# Altium integrated library TI_Logic_Flip-Flop,Latch,Register.IntLib: 2598 symbols (part 85 of 122)
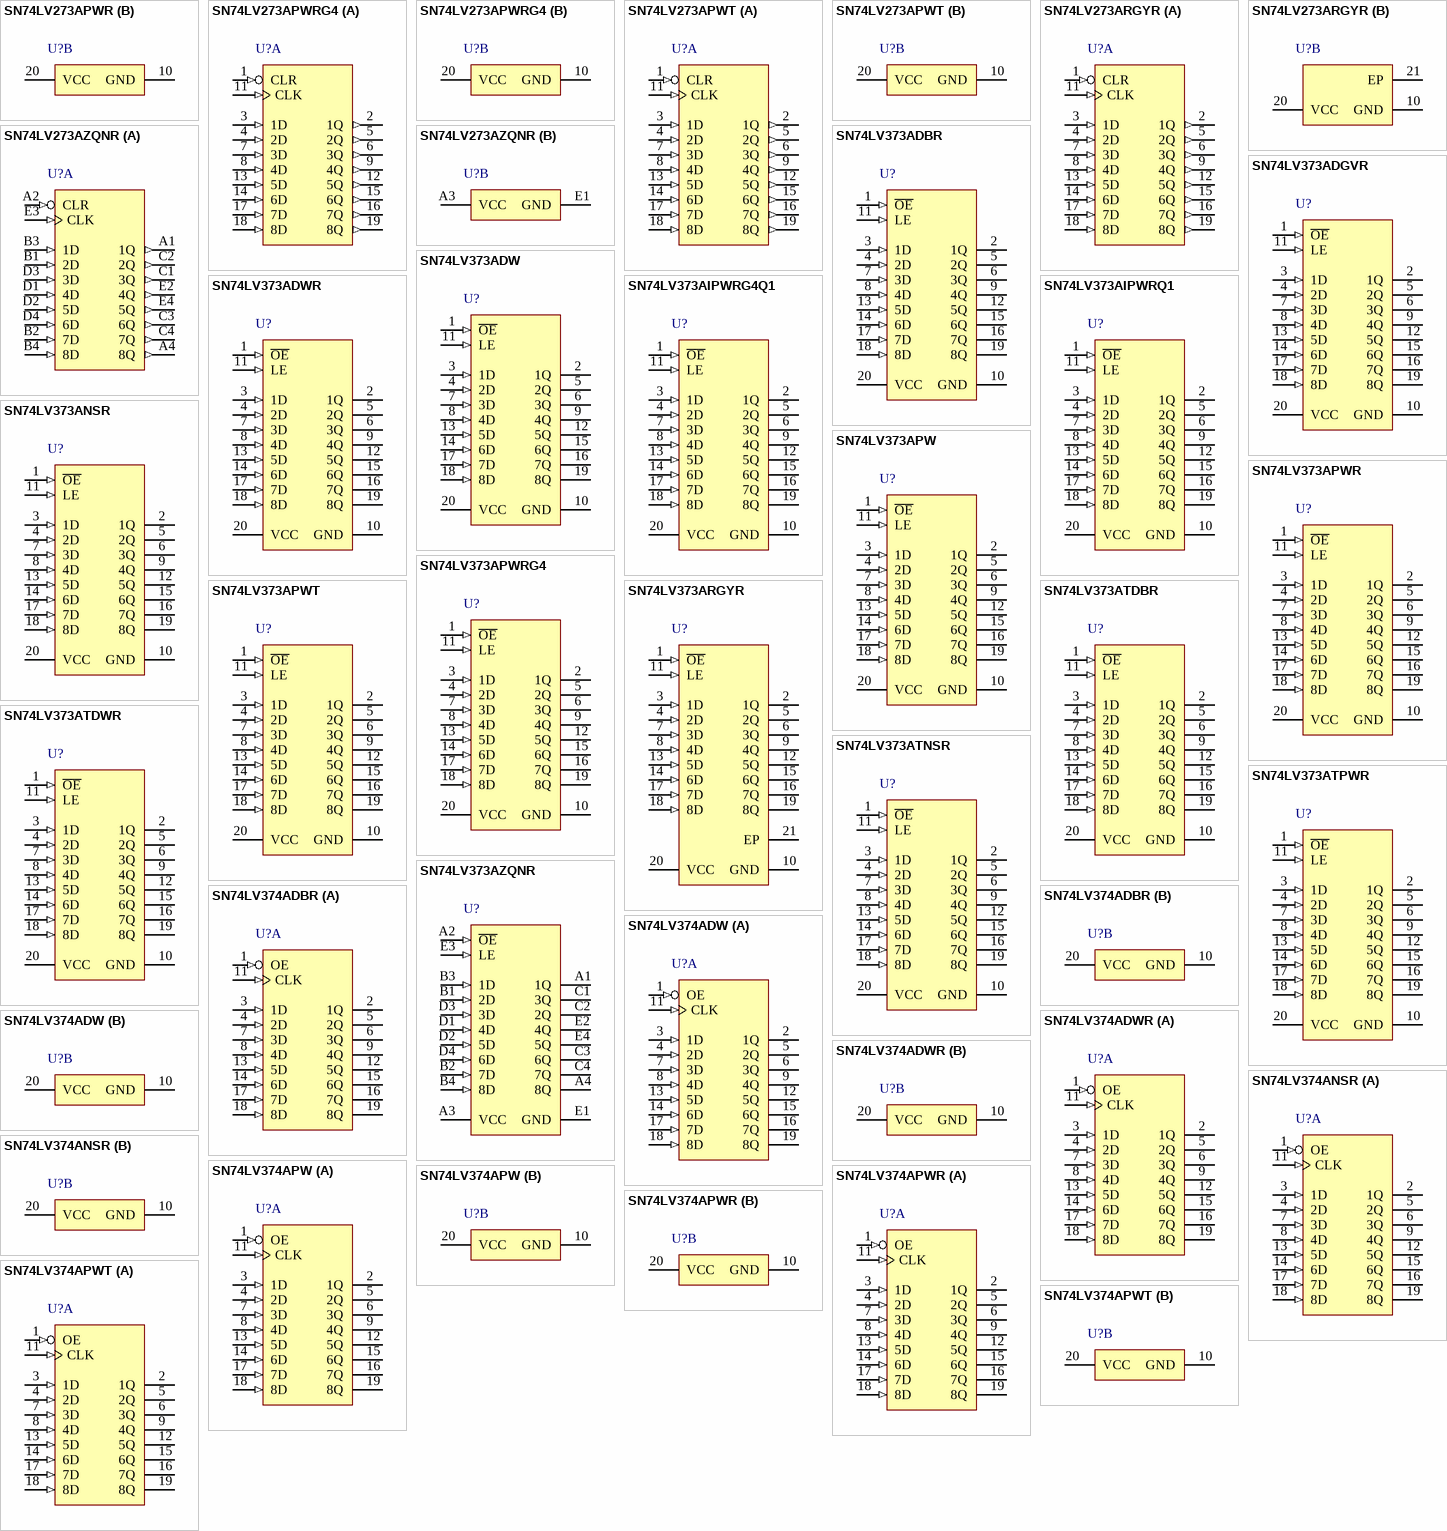
[diagram p223: symbols SN74LV273APWR to SN74LV374APWT]

## SN74LV373ANSR
designator U?
Octal Transparent D-Type Latches With 3-State Outputs, NS0020A, LARGE T&R; Generic Part Number: SN74LV373A; Manufacturer: Texas Instruments; PartNumber: SN74LV373ANSR; VCC(Min)(V): 2; VCC(Max)(V): 5.5; Output Type: CMOS; Logic: True; ICC @ Nom Voltage(Max)(mA): 0.02; Bits(#): 8; F @ Nom Voltage(Max)(Mhz): 70; Rating: Catalog; Technology Family: LV-A; Voltage(Nom)(V): 2.5,3.3,5; Schmitt Trigger: No; Output Drive (IOL/IOH)(Max)(mA): 50/-50; Output Logic: Non-inverted; 3-State Output: Yes; tpd @ Nom Voltage(Max)(ns): 21,17,10.5; DatasheetVersion: SCLS407K; PackageReference: NS0020A; Supplier 1: Digi-Key; Supplier Part Number 1: 296-28900-2-ND; Supplier 2: Digi-Key; Supplier Part Number 2: 296-28900-1-ND; Supplier 3: Digi-Key; Supplier Part Number 3: 296-28900-6-ND; Supplier 4: Mouser; Supplier Part Number 4: 595-SN74LV373ANSR; Input Type: CMOS; Operating Temperature Range(C): -40 to 125,-40 to 85; ComponentLink1Description: Manufacturer URL; ComponentLink1URL: http://www.ti.com/; ComponentLink2Description: Datasheet; ComponentLink2URL: http://www.ti.com/lit/ds/symlink/sn74lv373a.pdf; ComponentLink3Description: Package Specification; ComponentLink3URL: http://www.ti.com/lit/ml/msop002a/msop002a.pdf
footprint NS0020A_N (SOIC,20-Leads,Body 12.9x5.6mm,Pitch 1.27mm,IPC Medium Density)
footprint NS0020A_M (SOIC,20-Leads,Body 12.9x5.6mm,Pitch 1.27mm,IPC Low Density)
footprint NS0020A_L (SOIC,20-Leads,Body 12.9x5.6mm,Pitch 1.27mm,IPC High Density)
pins: 1 ~{OE} (in) "Output Enable", 2 1Q (hiz) "1Q Output", 3 1D (in) "1D Input", 4 2D (in) "2D Input", 5 2Q (hiz) "2Q Output", 6 3Q (hiz) "3Q Output", 7 3D (in) "3D Input", 8 4D (in) "4D Input", 9 4Q (hiz) "4Q Output", 10 GND (power) "Ground Pin", 11 LE (in) "Latch Enable", 12 5Q (hiz) "5Q Output", 13 5D (in) "5D Input", 14 6D (in) "6D Input", 15 6Q (hiz) "6Q Output", 16 7Q (hiz) "7Q Output", 17 7D (in) "7D Input", 18 8D (in) "8D Input", 19 8Q (hiz) "8Q Output", 20 VCC (power) "Power Pin"

## SN74LV373APW
designator U?
Octal Transparent D-Type Latches With 3-State Outputs, PW0020A, TUBE; Generic Part Number: SN74LV373A; Manufacturer: Texas Instruments; PartNumber: SN74LV373APW; VCC(Min)(V): 2; VCC(Max)(V): 5.5; Output Type: CMOS; Logic: True; ICC @ Nom Voltage(Max)(mA): 0.02; Bits(#): 8; F @ Nom Voltage(Max)(Mhz): 70; Rating: Catalog; Technology Family: LV-A; Voltage(Nom)(V): 2.5,3.3,5; Schmitt Trigger: No; Output Drive (IOL/IOH)(Max)(mA): 50/-50; Output Logic: Non-inverted; 3-State Output: Yes; tpd @ Nom Voltage(Max)(ns): 21,17,10.5; DatasheetVersion: SCLS407K; PackageReference: PW0020A; Supplier 1: Digi-Key; Supplier Part Number 1: 296-34054-5-ND; Supplier 2: Newark; Supplier Part Number 2: 02H5474; Supplier 3: Mouser; Supplier Part Number 3: 595-SN74LV373APW; Input Type: CMOS; Operating Temperature Range(C): -40 to 125,-40 to 85; Code_JEDEC: MO-153; ComponentLink1Description: Manufacturer URL; ComponentLink1URL: http://www.ti.com/; ComponentLink2Description: Datasheet; ComponentLink2URL: http://www.ti.com/lit/ds/symlink/sn74lv373a.pdf; ComponentLink3Description: Package Specification; ComponentLink3URL: http://www.ti.com/lit/ml/mpds362/mpds362.pdf
footprint PW0020A_N (SOP, 20-Leads, Body 6.6x4.5mm, Pitch 0.65mm, IPC Medium Density)
footprint PW0020A_M (SOP, 20-Leads, Body 6.6x4.5mm, Pitch 0.65mm, IPC Low Density)
footprint PW0020A_L (SOP, 20-Leads, Body 6.6x4.5mm, Pitch 0.65mm, IPC High Density)
pins: 1 ~{OE} (in) "Output Enable", 2 1Q (hiz) "1Q Output", 3 1D (in) "1D Input", 4 2D (in) "2D Input", 5 2Q (hiz) "2Q Output", 6 3Q (hiz) "3Q Output", 7 3D (in) "3D Input", 8 4D (in) "4D Input", 9 4Q (hiz) "4Q Output", 10 GND (power) "Ground Pin", 11 LE (in) "Latch Enable", 12 5Q (hiz) "5Q Output", 13 5D (in) "5D Input", 14 6D (in) "6D Input", 15 6Q (hiz) "6Q Output", 16 7Q (hiz) "7Q Output", 17 7D (in) "7D Input", 18 8D (in) "8D Input", 19 8Q (hiz) "8Q Output", 20 VCC (power) "Power Pin"

## SN74LV373APWR
designator U?
Octal Transparent D-Type Latches With 3-State Outputs, PW0020A, LARGE T&R; Generic Part Number: SN74LV373A; Manufacturer: Texas Instruments; PartNumber: SN74LV373APWR; VCC(Min)(V): 2; VCC(Max)(V): 5.5; Output Type: CMOS; Logic: True; ICC @ Nom Voltage(Max)(mA): 0.02; Bits(#): 8; F @ Nom Voltage(Max)(Mhz): 70; Rating: Catalog; Technology Family: LV-A; Voltage(Nom)(V): 2.5,3.3,5; Schmitt Trigger: No; Output Drive (IOL/IOH)(Max)(mA): 50/-50; Output Logic: Non-inverted; 3-State Output: Yes; tpd @ Nom Voltage(Max)(ns): 21,17,10.5; DatasheetVersion: SCLS407K; PackageReference: PW0020A; Supplier 1: Digi-Key; Supplier Part Number 1: 296-14318-2-ND; Supplier 2: Digi-Key; Supplier Part Number 2: 296-14318-1-ND; Supplier 3: Digi-Key; Supplier Part Number 3: 296-14318-6-ND; Supplier 4: Newark; Supplier Part Number 4: 76C4842; Supplier 5: Mouser; Supplier Part Number 5: 595-SN74LV373APWR; Input Type: CMOS; Operating Temperature Range(C): -40 to 125,-40 to 85; Code_JEDEC: MO-153; ComponentLink1Description: Manufacturer URL; ComponentLink1URL: http://www.ti.com/; ComponentLink2Description: Datasheet; ComponentLink2URL: http://www.ti.com/lit/ds/symlink/sn74lv373a.pdf; ComponentLink3Description: Package Specification; ComponentLink3URL: http://www.ti.com/lit/ml/mpds362/mpds362.pdf
footprint PW0020A_N (SOP, 20-Leads, Body 6.6x4.5mm, Pitch 0.65mm, IPC Medium Density)
footprint PW0020A_M (SOP, 20-Leads, Body 6.6x4.5mm, Pitch 0.65mm, IPC Low Density)
footprint PW0020A_L (SOP, 20-Leads, Body 6.6x4.5mm, Pitch 0.65mm, IPC High Density)
pins: 1 ~{OE} (in) "Output Enable", 2 1Q (hiz) "1Q Output", 3 1D (in) "1D Input", 4 2D (in) "2D Input", 5 2Q (hiz) "2Q Output", 6 3Q (hiz) "3Q Output", 7 3D (in) "3D Input", 8 4D (in) "4D Input", 9 4Q (hiz) "4Q Output", 10 GND (power) "Ground Pin", 11 LE (in) "Latch Enable", 12 5Q (hiz) "5Q Output", 13 5D (in) "5D Input", 14 6D (in) "6D Input", 15 6Q (hiz) "6Q Output", 16 7Q (hiz) "7Q Output", 17 7D (in) "7D Input", 18 8D (in) "8D Input", 19 8Q (hiz) "8Q Output", 20 VCC (power) "Power Pin"

## SN74LV373APWRG4
designator U?
Octal Transparent D-Type Latches With 3-State Outputs, PW0020A, LARGE T&R; Generic Part Number: SN74LV373A; Manufacturer: Texas Instruments; PartNumber: SN74LV373APWRG4; VCC(Min)(V): 2; VCC(Max)(V): 5.5; Output Type: CMOS; Logic: True; ICC @ Nom Voltage(Max)(mA): 0.02; Bits(#): 8; F @ Nom Voltage(Max)(Mhz): 70; Rating: Catalog; Technology Family: LV-A; Voltage(Nom)(V): 2.5,3.3,5; Schmitt Trigger: No; Output Drive (IOL/IOH)(Max)(mA): 50/-50; Output Logic: Non-inverted; 3-State Output: Yes; tpd @ Nom Voltage(Max)(ns): 21,17,10.5; DatasheetVersion: SCLS407K; PackageReference: PW0020A; Supplier 1: Digi-Key; Supplier Part Number 1: 296-41643-2-ND; Supplier 2: Digi-Key; Supplier Part Number 2: 296-41643-1-ND; Supplier 3: Digi-Key; Supplier Part Number 3: 296-41643-6-ND; Supplier 4: Mouser; Supplier Part Number 4: 595-SN74LV373APWRG4; Input Type: CMOS; Operating Temperature Range(C): -40 to 125,-40 to 85; Code_JEDEC: MO-153; ComponentLink1Description: Manufacturer URL; ComponentLink1URL: http://www.ti.com/; ComponentLink2Description: Datasheet; ComponentLink2URL: http://www.ti.com/lit/ds/symlink/sn74lv373a.pdf; ComponentLink3Description: Package Specification; ComponentLink3URL: http://www.ti.com/lit/ml/mpds362/mpds362.pdf
footprint PW0020A_N (SOP, 20-Leads, Body 6.6x4.5mm, Pitch 0.65mm, IPC Medium Density)
footprint PW0020A_M (SOP, 20-Leads, Body 6.6x4.5mm, Pitch 0.65mm, IPC Low Density)
footprint PW0020A_L (SOP, 20-Leads, Body 6.6x4.5mm, Pitch 0.65mm, IPC High Density)
pins: 1 ~{OE} (in) "Output Enable", 2 1Q (hiz) "1Q Output", 3 1D (in) "1D Input", 4 2D (in) "2D Input", 5 2Q (hiz) "2Q Output", 6 3Q (hiz) "3Q Output", 7 3D (in) "3D Input", 8 4D (in) "4D Input", 9 4Q (hiz) "4Q Output", 10 GND (power) "Ground Pin", 11 LE (in) "Latch Enable", 12 5Q (hiz) "5Q Output", 13 5D (in) "5D Input", 14 6D (in) "6D Input", 15 6Q (hiz) "6Q Output", 16 7Q (hiz) "7Q Output", 17 7D (in) "7D Input", 18 8D (in) "8D Input", 19 8Q (hiz) "8Q Output", 20 VCC (power) "Power Pin"

## SN74LV373APWT
designator U?
Octal Transparent D-Type Latches With 3-State Outputs, PW0020A, SMALL T&R; Generic Part Number: SN74LV373A; Manufacturer: Texas Instruments; PartNumber: SN74LV373APWT; VCC(Min)(V): 2; VCC(Max)(V): 5.5; Output Type: CMOS; Logic: True; ICC @ Nom Voltage(Max)(mA): 0.02; Bits(#): 8; F @ Nom Voltage(Max)(Mhz): 70; Rating: Catalog; Technology Family: LV-A; Voltage(Nom)(V): 2.5,3.3,5; Schmitt Trigger: No; Output Drive (IOL/IOH)(Max)(mA): 50/-50; Output Logic: Non-inverted; 3-State Output: Yes; tpd @ Nom Voltage(Max)(ns): 21,17,10.5; DatasheetVersion: SCLS407K; PackageReference: PW0020A; Supplier 1: Digi-Key; Supplier Part Number 1: 296-28667-2-ND; Supplier 2: Digi-Key; Supplier Part Number 2: 296-28667-1-ND; Supplier 3: Digi-Key; Supplier Part Number 3: 296-28667-6-ND; Supplier 4: Farnell; Supplier Part Number 4: 2406978; Supplier 5: Mouser; Supplier Part Number 5: 595-SN74LV373APWT; Input Type: CMOS; Operating Temperature Range(C): -40 to 125,-40 to 85; Code_JEDEC: MO-153; ComponentLink1Description: Manufacturer URL; ComponentLink1URL: http://www.ti.com/; ComponentLink2Description: Datasheet; ComponentLink2URL: http://www.ti.com/lit/ds/symlink/sn74lv373a.pdf; ComponentLink3Description: Package Specification; ComponentLink3URL: http://www.ti.com/lit/ml/mpds362/mpds362.pdf
footprint PW0020A_N (SOP, 20-Leads, Body 6.6x4.5mm, Pitch 0.65mm, IPC Medium Density)
footprint PW0020A_M (SOP, 20-Leads, Body 6.6x4.5mm, Pitch 0.65mm, IPC Low Density)
footprint PW0020A_L (SOP, 20-Leads, Body 6.6x4.5mm, Pitch 0.65mm, IPC High Density)
pins: 1 ~{OE} (in) "Output Enable", 2 1Q (hiz) "1Q Output", 3 1D (in) "1D Input", 4 2D (in) "2D Input", 5 2Q (hiz) "2Q Output", 6 3Q (hiz) "3Q Output", 7 3D (in) "3D Input", 8 4D (in) "4D Input", 9 4Q (hiz) "4Q Output", 10 GND (power) "Ground Pin", 11 LE (in) "Latch Enable", 12 5Q (hiz) "5Q Output", 13 5D (in) "5D Input", 14 6D (in) "6D Input", 15 6Q (hiz) "6Q Output", 16 7Q (hiz) "7Q Output", 17 7D (in) "7D Input", 18 8D (in) "8D Input", 19 8Q (hiz) "8Q Output", 20 VCC (power) "Power Pin"

## SN74LV373ARGYR
designator U?
Octal Transparent D-Type Latches With 3-State Outputs, RGY0020A, LARGE T&R; Generic Part Number: SN74LV373A; Manufacturer: Texas Instruments; PartNumber: SN74LV373ARGYR; VCC(Min)(V): 2; VCC(Max)(V): 5.5; Output Type: CMOS; Logic: True; ICC @ Nom Voltage(Max)(mA): 0.02; Bits(#): 8; F @ Nom Voltage(Max)(Mhz): 70; Rating: Catalog; Technology Family: LV-A; Voltage(Nom)(V): 2.5,3.3,5; Schmitt Trigger: No; Output Drive (IOL/IOH)(Max)(mA): 50/-50; Output Logic: Non-inverted; 3-State Output: Yes; tpd @ Nom Voltage(Max)(ns): 21,17,10.5; DatasheetVersion: SCLS407K; PackageReference: RGY0020A; Supplier 1: Digi-Key; Supplier Part Number 1: 296-13942-2-ND; Supplier 2: Digi-Key; Supplier Part Number 2: 296-13942-1-ND; Supplier 3: Digi-Key; Supplier Part Number 3: 296-13942-6-ND; Supplier 4: Mouser; Supplier Part Number 4: 595-SN74LV373ARGYR; Input Type: CMOS; Operating Temperature Range(C): -40 to 125,-40 to 85; Code_JEDEC: MO-241; ComponentLink1Description: Manufacturer URL; ComponentLink1URL: http://www.ti.com/; ComponentLink2Description: Datasheet; ComponentLink2URL: http://www.ti.com/lit/ds/symlink/sn74lv373a.pdf; ComponentLink3Description: Package Specification; ComponentLink3URL: http://www.ti.com/lit/ml/mpqf116g/mpqf116g.pdf
footprint RGY0020A_V (QFN, 20-Leads, Body 4.5x3.5mm, Thermal Pad 3.05x2.05mm, TI Recommend)
pins: 1 ~{OE} (in) "Output Enable", 2 1Q (hiz) "1Q Output", 3 1D (in) "1D Input", 4 2D (in) "2D Input", 5 2Q (hiz) "2Q Output", 6 3Q (hiz) "3Q Output", 7 3D (in) "3D Input", 8 4D (in) "4D Input", 9 4Q (hiz) "4Q Output", 10 GND (power) "Ground Pin", 11 LE (in) "Latch Enable", 12 5Q (hiz) "5Q Output", 13 5D (in) "5D Input", 14 6D (in) "6D Input", 15 6Q (hiz) "6Q Output", 16 7Q (hiz) "7Q Output", 17 7D (in) "7D Input", 18 8D (in) "8D Input", 19 8Q (hiz) "8Q Output", 20 VCC (power) "Power Pin", 21 EP

## SN74LV373ATDBR
designator U?
Octal Transparent D-Type Latch With 3-State Output, DB0020A, LARGE T&R; Generic Part Number: SN74LV373AT; Manufacturer: Texas Instruments; PartNumber: SN74LV373ATDBR; VCC(Min)(V): 4.5; VCC(Max)(V): 5.5; Output Type: CMOS; Logic: True; ICC @ Nom Voltage(Max)(mA): 0.02; Input Type: LVTTL; Bits(#): 8; F @ Nom Voltage(Max)(Mhz): 70; Rating: Catalog; Technology Family: LV-AT; Voltage(Nom)(V): 5; Schmitt Trigger: No; Output Drive (IOL/IOH)(Max)(mA): 16/-16; Output Logic: Non-inverted; 3-State Output: Yes; tpd @ Nom Voltage(Max)(ns): 11; DatasheetVersion: SCES630B; PackageReference: DB0020A; Supplier 1: Digi-Key; Supplier Part Number 1: 296-21038-2-ND; Supplier 2: Digi-Key; Supplier Part Number 2: 296-21038-1-ND; Supplier 3: Digi-Key; Supplier Part Number 3: 296-21038-6-ND; Supplier 4: Mouser; Supplier Part Number 4: 595-SN74LV373ATDBR; Operating Temperature Range(C): -40 to 125; Code_JEDEC: MO-150; ComponentLink1Description: Manufacturer URL; ComponentLink1URL: http://www.ti.com/; ComponentLink2Description: Datasheet; ComponentLink2URL: http://www.ti.com/lit/ds/symlink/sn74lv373at.pdf; ComponentLink3Description: Package Specification; ComponentLink3URL: http://www.ti.com/lit/ml/mpds508/mpds508.pdf
footprint DB0020A_N (SOP, 20-Leads, Body 5.6x7.5mm, Pitch 0.65mm, IPC Medium Density)
footprint DB0020A_M (SOP, 20-Leads, Body 5.6x7.5mm, Pitch 0.65mm, IPC Low Density)
footprint DB0020A_L (SOP, 20-Leads, Body 5.6x7.5mm, Pitch 0.65mm, IPC High Density)
pins: 1 ~{OE} (in) "Output Enable", 2 1Q (hiz) "1Q Output", 3 1D (in) "1D Input", 4 2D (in) "2D Input", 5 2Q (hiz) "2Q Output", 6 3Q (hiz) "3Q Output", 7 3D (in) "3D Input", 8 4D (in) "4D Input", 9 4Q (hiz) "4Q Output", 10 GND (power) "Ground Pin", 11 LE (in) "Latch Enable", 12 5Q (hiz) "5Q Output", 13 5D (in) "5D Input", 14 6D (in) "6D Input", 15 6Q (hiz) "6Q Output", 16 7Q (hiz) "7Q Output", 17 7D (in) "7D Input", 18 8D (in) "8D Input", 19 8Q (hiz) "8Q Output", 20 VCC (power) "Power Pin"

## SN74LV373ATDWR
designator U?
Octal Transparent D-Type Latch With 3-State Output, DW0020A, LARGE T&R; Generic Part Number: SN74LV373AT; Manufacturer: Texas Instruments; PartNumber: SN74LV373ATDWR; VCC(Min)(V): 4.5; VCC(Max)(V): 5.5; Output Type: CMOS; Logic: True; ICC @ Nom Voltage(Max)(mA): 0.02; Input Type: LVTTL; Bits(#): 8; F @ Nom Voltage(Max)(Mhz): 70; Rating: Catalog; Technology Family: LV-AT; Voltage(Nom)(V): 5; Schmitt Trigger: No; Output Drive (IOL/IOH)(Max)(mA): 16/-16; Output Logic: Non-inverted; 3-State Output: Yes; tpd @ Nom Voltage(Max)(ns): 11; DatasheetVersion: SCES630B; PackageReference: DW0020A; Supplier 1: Digi-Key; Supplier Part Number 1: 296-21039-2-ND; Supplier 2: Digi-Key; Supplier Part Number 2: 296-21039-1-ND; Supplier 3: Digi-Key; Supplier Part Number 3: 296-21039-6-ND; Supplier 4: Mouser; Supplier Part Number 4: 595-SN74LV373ATDWR; Operating Temperature Range(C): -40 to 125; Code_JEDEC: MS-013; ComponentLink1Description: Manufacturer URL; ComponentLink1URL: http://www.ti.com/; ComponentLink2Description: Datasheet; ComponentLink2URL: http://www.ti.com/lit/ds/symlink/sn74lv373at.pdf; ComponentLink3Description: Package Specification; ComponentLink3URL: http://www.ti.com/lit/ml/mpds173a/mpds173a.pdf
footprint DW0020A_N (SOIC, 20-Leads, Body 13x7.6mm, Pitch 1.27mm, IPC Medium Density)
footprint DW0020A_M (SOIC, 20-Leads, Body 13x7.6mm, Pitch 1.27mm, IPC Low Density)
footprint DW0020A_L (SOIC, 20-Leads, Body 13x7.6mm, Pitch 1.27mm, IPC High Density)
pins: 1 ~{OE} (in) "Output Enable", 2 1Q (hiz) "1Q Output", 3 1D (in) "1D Input", 4 2D (in) "2D Input", 5 2Q (hiz) "2Q Output", 6 3Q (hiz) "3Q Output", 7 3D (in) "3D Input", 8 4D (in) "4D Input", 9 4Q (hiz) "4Q Output", 10 GND (power) "Ground Pin", 11 LE (in) "Latch Enable", 12 5Q (hiz) "5Q Output", 13 5D (in) "5D Input", 14 6D (in) "6D Input", 15 6Q (hiz) "6Q Output", 16 7Q (hiz) "7Q Output", 17 7D (in) "7D Input", 18 8D (in) "8D Input", 19 8Q (hiz) "8Q Output", 20 VCC (power) "Power Pin"

## SN74LV373ATNSR
designator U?
Octal Transparent D-Type Latch With 3-State Output, NS0020A, LARGE T&R; Generic Part Number: SN74LV373AT; Manufacturer: Texas Instruments; PartNumber: SN74LV373ATNSR; VCC(Min)(V): 4.5; VCC(Max)(V): 5.5; Output Type: CMOS; Logic: True; ICC @ Nom Voltage(Max)(mA): 0.02; Input Type: LVTTL; Bits(#): 8; F @ Nom Voltage(Max)(Mhz): 70; Rating: Catalog; Technology Family: LV-AT; Voltage(Nom)(V): 5; Schmitt Trigger: No; Output Drive (IOL/IOH)(Max)(mA): 16/-16; Output Logic: Non-inverted; 3-State Output: Yes; tpd @ Nom Voltage(Max)(ns): 11; DatasheetVersion: SCES630B; PackageReference: NS0020A; Supplier 1: Digi-Key; Supplier Part Number 1: 296-21040-2-ND; Supplier 2: Digi-Key; Supplier Part Number 2: 296-21040-1-ND; Supplier 3: Digi-Key; Supplier Part Number 3: 296-21040-6-ND; Supplier 4: Mouser; Supplier Part Number 4: 595-SN74LV373ATNSR; Operating Temperature Range(C): -40 to 125; ComponentLink1Description: Manufacturer URL; ComponentLink1URL: http://www.ti.com/; ComponentLink2Description: Datasheet; ComponentLink2URL: http://www.ti.com/lit/ds/symlink/sn74lv373at.pdf; ComponentLink3Description: Package Specification; ComponentLink3URL: http://www.ti.com/lit/ml/msop002a/msop002a.pdf
footprint NS0020A_N (SOIC,20-Leads,Body 12.9x5.6mm,Pitch 1.27mm,IPC Medium Density)
footprint NS0020A_M (SOIC,20-Leads,Body 12.9x5.6mm,Pitch 1.27mm,IPC Low Density)
footprint NS0020A_L (SOIC,20-Leads,Body 12.9x5.6mm,Pitch 1.27mm,IPC High Density)
pins: 1 ~{OE} (in) "Output Enable", 2 1Q (hiz) "1Q Output", 3 1D (in) "1D Input", 4 2D (in) "2D Input", 5 2Q (hiz) "2Q Output", 6 3Q (hiz) "3Q Output", 7 3D (in) "3D Input", 8 4D (in) "4D Input", 9 4Q (hiz) "4Q Output", 10 GND (power) "Ground Pin", 11 LE (in) "Latch Enable", 12 5Q (hiz) "5Q Output", 13 5D (in) "5D Input", 14 6D (in) "6D Input", 15 6Q (hiz) "6Q Output", 16 7Q (hiz) "7Q Output", 17 7D (in) "7D Input", 18 8D (in) "8D Input", 19 8Q (hiz) "8Q Output", 20 VCC (power) "Power Pin"

## SN74LV373ATPWR
designator U?
Octal Transparent D-Type Latch With 3-State Output, PW0020A, LARGE T&R; Generic Part Number: SN74LV373AT; Manufacturer: Texas Instruments; PartNumber: SN74LV373ATPWR; VCC(Min)(V): 4.5; VCC(Max)(V): 5.5; Output Type: CMOS; Logic: True; ICC @ Nom Voltage(Max)(mA): 0.02; Input Type: LVTTL; Bits(#): 8; F @ Nom Voltage(Max)(Mhz): 70; Rating: Catalog; Technology Family: LV-AT; Voltage(Nom)(V): 5; Schmitt Trigger: No; Output Drive (IOL/IOH)(Max)(mA): 16/-16; Output Logic: Non-inverted; 3-State Output: Yes; tpd @ Nom Voltage(Max)(ns): 11; DatasheetVersion: SCES630B; PackageReference: PW0020A; Supplier 1: Digi-Key; Supplier Part Number 1: 296-21041-2-ND; Supplier 2: Digi-Key; Supplier Part Number 2: 296-21041-1-ND; Supplier 3: Digi-Key; Supplier Part Number 3: 296-21041-6-ND; Supplier 4: Mouser; Supplier Part Number 4: 595-SN74LV373ATPWR; Operating Temperature Range(C): -40 to 125; Code_JEDEC: MO-153; ComponentLink1Description: Manufacturer URL; ComponentLink1URL: http://www.ti.com/; ComponentLink2Description: Datasheet; ComponentLink2URL: http://www.ti.com/lit/ds/symlink/sn74lv373at.pdf; ComponentLink3Description: Package Specification; ComponentLink3URL: http://www.ti.com/lit/ml/mpds362/mpds362.pdf
footprint PW0020A_N (SOP, 20-Leads, Body 6.6x4.5mm, Pitch 0.65mm, IPC Medium Density)
footprint PW0020A_M (SOP, 20-Leads, Body 6.6x4.5mm, Pitch 0.65mm, IPC Low Density)
footprint PW0020A_L (SOP, 20-Leads, Body 6.6x4.5mm, Pitch 0.65mm, IPC High Density)
pins: 1 ~{OE} (in) "Output Enable", 2 1Q (hiz) "1Q Output", 3 1D (in) "1D Input", 4 2D (in) "2D Input", 5 2Q (hiz) "2Q Output", 6 3Q (hiz) "3Q Output", 7 3D (in) "3D Input", 8 4D (in) "4D Input", 9 4Q (hiz) "4Q Output", 10 GND (power) "Ground Pin", 11 LE (in) "Latch Enable", 12 5Q (hiz) "5Q Output", 13 5D (in) "5D Input", 14 6D (in) "6D Input", 15 6Q (hiz) "6Q Output", 16 7Q (hiz) "7Q Output", 17 7D (in) "7D Input", 18 8D (in) "8D Input", 19 8Q (hiz) "8Q Output", 20 VCC (power) "Power Pin"

## SN74LV373AZQNR
designator U?
Octal Transparent D-Type Latches With 3-State Outputs, ZQN0020A, LARGE T&R; Generic Part Number: SN74LV373A; Manufacturer: Texas Instruments; PartNumber: SN74LV373AZQNR; VCC(Min)(V): 2; VCC(Max)(V): 5.5; Output Type: CMOS; Logic: True; ICC @ Nom Voltage(Max)(mA): 0.02; Bits(#): 8; F @ Nom Voltage(Max)(Mhz): 70; Rating: Catalog; Technology Family: LV-A; Voltage(Nom)(V): 2.5,3.3,5; Schmitt Trigger: No; Output Drive (IOL/IOH)(Max)(mA): 50/-50; Output Logic: Non-inverted; 3-State Output: Yes; tpd @ Nom Voltage(Max)(ns): 21,17,10.5; DatasheetVersion: SCLS407K; PackageReference: ZQN0020A; Supplier 1: Digi-Key; Supplier Part Number 1: SN74LV373AZQNR-ND; Supplier 2: Mouser; Supplier Part Number 2: 595-SN74LV373AZQNR; Input Type: CMOS; Operating Temperature Range(C): -40 to 125,-40 to 85; Code_JEDEC: MO-285; ComponentLink1Description: Manufacturer URL; ComponentLink1URL: http://www.ti.com/; ComponentLink2Description: Datasheet; ComponentLink2URL: http://www.ti.com/lit/ds/symlink/sn74lv373a.pdf; ComponentLink3Description: Package Specification; ComponentLink3URL: http://www.ti.com/lit/ml/mpbg297b/mpbg297b.pdf
footprint ZQN0020A (BGA, 20-Balls, Body 4x3mm, Pitch 0.65mm)
pins: A1 1Q (hiz) "Output 1", A2 ~{OE} (in) "Enable Pin", A3 VCC (power) "Power Pin", A4 8Q (hiz) "Output 8", B1 2D (in) "Input 2", B2 7D (in) "Input 7", B3 1D (in) "Input 1", B4 8D (in) "Input 8", C1 3Q (hiz) "Output 3", C2 2Q (hiz) "Output 2", C3 6Q (hiz) "Output 6", C4 7Q (hiz) "Output 7", D1 4D (in) "Input 4", D2 5D (in) "Input 5", D3 3D (in) "Input 3", D4 6D (in) "Input 6", E1 GND (power) "Ground Pin", E2 4Q (hiz) "Output 4", E3 LE (in) "Latch Enable", E4 5Q (hiz) "Output 5"

## SN74LV374ADBR
designator U?
Octal Edge-Triggered D-Type Flip-Flops With 3-State Outputs, DB0020A, LARGE T&R; Generic Part Number: SN74LV374A; Manufacturer: Texas Instruments; PartNumber: SN74LV374ADBR; VCC(Min)(V): 2; VCC(Max)(V): 5.5; Output Type: CMOS; ICC @ Nom Voltage(Max)(mA): 0.02; Bits(#): 8; F @ Nom Voltage(Max)(Mhz): 70; Rating: Catalog; Technology Family: LV-A; Voltage(Nom)(V): 2.5,3.3,5; Schmitt Trigger: No; Output Drive (IOL/IOH)(Max)(mA): 50/-50; Output Logic: Non-inverted; 3-State Output: Yes; tpd @ Nom Voltage(Max)(ns): 19,15,9.5; DatasheetVersion: SCLS408I; PackageReference: DB0020A; Supplier 1: Digi-Key; Supplier Part Number 1: 296-12553-2-ND; Supplier 2: Digi-Key; Supplier Part Number 2: 296-12553-1-ND; Supplier 3: Digi-Key; Supplier Part Number 3: 296-12553-6-ND; Supplier 4: Farnell; Supplier Part Number 4: 1236277; Supplier 5: Mouser; Supplier Part Number 5: 595-SN74LV374ADBR; Input Type: CMOS; Operating Temperature Range(C): -40 to 125,-40 to 85; Code_JEDEC: MO-150; ComponentLink1Description: Manufacturer URL; ComponentLink1URL: http://www.ti.com/; ComponentLink2Description: Datasheet; ComponentLink2URL: http://www.ti.com/lit/ds/symlink/sn74lv374a.pdf; ComponentLink3Description: Package Specification; ComponentLink3URL: http://www.ti.com/lit/ml/mpds508/mpds508.pdf
footprint DB0020A_N (SOP, 20-Leads, Body 5.6x7.5mm, Pitch 0.65mm, IPC Medium Density)
footprint DB0020A_M (SOP, 20-Leads, Body 5.6x7.5mm, Pitch 0.65mm, IPC Low Density)
footprint DB0020A_L (SOP, 20-Leads, Body 5.6x7.5mm, Pitch 0.65mm, IPC High Density)
part A pins: 1 OE (in), 2 1Q (hiz), 3 1D (in), 4 2D (in), 5 2Q (hiz), 6 3Q (hiz), 7 3D (in), 8 4D (in), 9 4Q (hiz), 11 CLK (in), 12 5Q (hiz), 13 5D (in), 14 6D (in), 15 6Q (hiz), 16 7Q (hiz), 17 7D (in), 18 8D (in), 19 8Q (hiz)
part B pins: 10 GND (power), 20 VCC (power)

## SN74LV374ADW
designator U?
Octal Edge-Triggered D-Type Flip-Flops With 3-State Outputs, DW0020A, TUBE; Generic Part Number: SN74LV374A; Manufacturer: Texas Instruments; PartNumber: SN74LV374ADW; VCC(Min)(V): 2; VCC(Max)(V): 5.5; Output Type: CMOS; ICC @ Nom Voltage(Max)(mA): 0.02; Bits(#): 8; F @ Nom Voltage(Max)(Mhz): 70; Rating: Catalog; Technology Family: LV-A; Voltage(Nom)(V): 2.5,3.3,5; Schmitt Trigger: No; Output Drive (IOL/IOH)(Max)(mA): 50/-50; Output Logic: Non-inverted; 3-State Output: Yes; tpd @ Nom Voltage(Max)(ns): 19,15,9.5; DatasheetVersion: SCLS408I; PackageReference: DW0020A; Supplier 1: Digi-Key; Supplier Part Number 1: 296-1688-5-ND; Supplier 2: Newark; Supplier Part Number 2: 76C4845; Supplier 3: Mouser; Supplier Part Number 3: 595-SN74LV374ADW; Input Type: CMOS; Operating Temperature Range(C): -40 to 125,-40 to 85; Code_JEDEC: MS-013; ComponentLink1Description: Manufacturer URL; ComponentLink1URL: http://www.ti.com/; ComponentLink2Description: Datasheet; ComponentLink2URL: http://www.ti.com/lit/ds/symlink/sn74lv374a.pdf; ComponentLink3Description: Package Specification; ComponentLink3URL: http://www.ti.com/lit/ml/mpds173a/mpds173a.pdf
footprint DW0020A_N (SOIC, 20-Leads, Body 13x7.6mm, Pitch 1.27mm, IPC Medium Density)
footprint DW0020A_M (SOIC, 20-Leads, Body 13x7.6mm, Pitch 1.27mm, IPC Low Density)
footprint DW0020A_L (SOIC, 20-Leads, Body 13x7.6mm, Pitch 1.27mm, IPC High Density)
part A pins: 1 OE (in), 2 1Q (hiz), 3 1D (in), 4 2D (in), 5 2Q (hiz), 6 3Q (hiz), 7 3D (in), 8 4D (in), 9 4Q (hiz), 11 CLK (in), 12 5Q (hiz), 13 5D (in), 14 6D (in), 15 6Q (hiz), 16 7Q (hiz), 17 7D (in), 18 8D (in), 19 8Q (hiz)
part B pins: 10 GND (power), 20 VCC (power)

## SN74LV374ADWR
designator U?
Octal Edge-Triggered D-Type Flip-Flops With 3-State Outputs, DW0020A, LARGE T&R; Generic Part Number: SN74LV374A; Manufacturer: Texas Instruments; PartNumber: SN74LV374ADWR; VCC(Min)(V): 2; VCC(Max)(V): 5.5; Output Type: CMOS; ICC @ Nom Voltage(Max)(mA): 0.02; Bits(#): 8; F @ Nom Voltage(Max)(Mhz): 70; Rating: Catalog; Technology Family: LV-A; Voltage(Nom)(V): 2.5,3.3,5; Schmitt Trigger: No; Output Drive (IOL/IOH)(Max)(mA): 50/-50; Output Logic: Non-inverted; 3-State Output: Yes; tpd @ Nom Voltage(Max)(ns): 19,15,9.5; DatasheetVersion: SCLS408I; PackageReference: DW0020A; Supplier 1: Digi-Key; Supplier Part Number 1: SN74LV374ADWR-ND; Supplier 2: Mouser; Supplier Part Number 2: 595-SN74LV374ADWR; Input Type: CMOS; Operating Temperature Range(C): -40 to 125,-40 to 85; Code_JEDEC: MS-013; ComponentLink1Description: Manufacturer URL; ComponentLink1URL: http://www.ti.com/; ComponentLink2Description: Datasheet; ComponentLink2URL: http://www.ti.com/lit/ds/symlink/sn74lv374a.pdf; ComponentLink3Description: Package Specification; ComponentLink3URL: http://www.ti.com/lit/ml/mpds173a/mpds173a.pdf
footprint DW0020A_N (SOIC, 20-Leads, Body 13x7.6mm, Pitch 1.27mm, IPC Medium Density)
footprint DW0020A_M (SOIC, 20-Leads, Body 13x7.6mm, Pitch 1.27mm, IPC Low Density)
footprint DW0020A_L (SOIC, 20-Leads, Body 13x7.6mm, Pitch 1.27mm, IPC High Density)
part A pins: 1 OE (in), 2 1Q (hiz), 3 1D (in), 4 2D (in), 5 2Q (hiz), 6 3Q (hiz), 7 3D (in), 8 4D (in), 9 4Q (hiz), 11 CLK (in), 12 5Q (hiz), 13 5D (in), 14 6D (in), 15 6Q (hiz), 16 7Q (hiz), 17 7D (in), 18 8D (in), 19 8Q (hiz)
part B pins: 10 GND (power), 20 VCC (power)

## SN74LV374ANSR
designator U?
Octal Edge-Triggered D-Type Flip-Flops With 3-State Outputs, NS0020A, LARGE T&R; Generic Part Number: SN74LV374A; Manufacturer: Texas Instruments; PartNumber: SN74LV374ANSR; VCC(Min)(V): 2; VCC(Max)(V): 5.5; Output Type: CMOS; ICC @ Nom Voltage(Max)(mA): 0.02; Bits(#): 8; F @ Nom Voltage(Max)(Mhz): 70; Rating: Catalog; Technology Family: LV-A; Voltage(Nom)(V): 2.5,3.3,5; Schmitt Trigger: No; Output Drive (IOL/IOH)(Max)(mA): 50/-50; Output Logic: Non-inverted; 3-State Output: Yes; tpd @ Nom Voltage(Max)(ns): 19,15,9.5; DatasheetVersion: SCLS408I; PackageReference: NS0020A; Supplier 1: Digi-Key; Supplier Part Number 1: 296-37426-2-ND; Supplier 2: Digi-Key; Supplier Part Number 2: 296-37426-1-ND; Supplier 3: Digi-Key; Supplier Part Number 3: 296-37426-6-ND; Supplier 4: Mouser; Supplier Part Number 4: 595-SN74LV374ANSR; Input Type: CMOS; Operating Temperature Range(C): -40 to 125,-40 to 85; ComponentLink1Description: Manufacturer URL; ComponentLink1URL: http://www.ti.com/; ComponentLink2Description: Datasheet; ComponentLink2URL: http://www.ti.com/lit/ds/symlink/sn74lv374a.pdf; ComponentLink3Description: Package Specification; ComponentLink3URL: http://www.ti.com/lit/ml/msop002a/msop002a.pdf
footprint NS0020A_N (SOIC,20-Leads,Body 12.9x5.6mm,Pitch 1.27mm,IPC Medium Density)
footprint NS0020A_M (SOIC,20-Leads,Body 12.9x5.6mm,Pitch 1.27mm,IPC Low Density)
footprint NS0020A_L (SOIC,20-Leads,Body 12.9x5.6mm,Pitch 1.27mm,IPC High Density)
part A pins: 1 OE (in), 2 1Q (hiz), 3 1D (in), 4 2D (in), 5 2Q (hiz), 6 3Q (hiz), 7 3D (in), 8 4D (in), 9 4Q (hiz), 11 CLK (in), 12 5Q (hiz), 13 5D (in), 14 6D (in), 15 6Q (hiz), 16 7Q (hiz), 17 7D (in), 18 8D (in), 19 8Q (hiz)
part B pins: 10 GND (power), 20 VCC (power)

## SN74LV374APW
designator U?
Octal Edge-Triggered D-Type Flip-Flops With 3-State Outputs, PW0020A, TUBE; Generic Part Number: SN74LV374A; Manufacturer: Texas Instruments; PartNumber: SN74LV374APW; VCC(Min)(V): 2; VCC(Max)(V): 5.5; Output Type: CMOS; ICC @ Nom Voltage(Max)(mA): 0.02; Bits(#): 8; F @ Nom Voltage(Max)(Mhz): 70; Rating: Catalog; Technology Family: LV-A; Voltage(Nom)(V): 2.5,3.3,5; Schmitt Trigger: No; Output Drive (IOL/IOH)(Max)(mA): 50/-50; Output Logic: Non-inverted; 3-State Output: Yes; tpd @ Nom Voltage(Max)(ns): 19,15,9.5; DatasheetVersion: SCLS408I; PackageReference: PW0020A; Supplier 1: Digi-Key; Supplier Part Number 1: 296-26552-5-ND; Supplier 2: Farnell; Supplier Part Number 2: 1741126; Supplier 3: Mouser; Supplier Part Number 3: 595-SN74LV374APW; Input Type: CMOS; Operating Temperature Range(C): -40 to 125,-40 to 85; Code_JEDEC: MO-153; ComponentLink1Description: Manufacturer URL; ComponentLink1URL: http://www.ti.com/; ComponentLink2Description: Datasheet; ComponentLink2URL: http://www.ti.com/lit/ds/symlink/sn74lv374a.pdf; ComponentLink3Description: Package Specification; ComponentLink3URL: http://www.ti.com/lit/ml/mpds362/mpds362.pdf
footprint PW0020A_N (SOP, 20-Leads, Body 6.6x4.5mm, Pitch 0.65mm, IPC Medium Density)
footprint PW0020A_M (SOP, 20-Leads, Body 6.6x4.5mm, Pitch 0.65mm, IPC Low Density)
footprint PW0020A_L (SOP, 20-Leads, Body 6.6x4.5mm, Pitch 0.65mm, IPC High Density)
part A pins: 1 OE (in), 2 1Q (hiz), 3 1D (in), 4 2D (in), 5 2Q (hiz), 6 3Q (hiz), 7 3D (in), 8 4D (in), 9 4Q (hiz), 11 CLK (in), 12 5Q (hiz), 13 5D (in), 14 6D (in), 15 6Q (hiz), 16 7Q (hiz), 17 7D (in), 18 8D (in), 19 8Q (hiz)
part B pins: 10 GND (power), 20 VCC (power)

## SN74LV374APWR
designator U?
Octal Edge-Triggered D-Type Flip-Flops With 3-State Outputs, PW0020A, LARGE T&R; Generic Part Number: SN74LV374A; Manufacturer: Texas Instruments; PartNumber: SN74LV374APWR; VCC(Min)(V): 2; VCC(Max)(V): 5.5; Output Type: CMOS; ICC @ Nom Voltage(Max)(mA): 0.02; Bits(#): 8; F @ Nom Voltage(Max)(Mhz): 70; Rating: Catalog; Technology Family: LV-A; Voltage(Nom)(V): 2.5,3.3,5; Schmitt Trigger: No; Output Drive (IOL/IOH)(Max)(mA): 50/-50; Output Logic: Non-inverted; 3-State Output: Yes; tpd @ Nom Voltage(Max)(ns): 19,15,9.5; DatasheetVersion: SCLS408I; PackageReference: PW0020A; Supplier 1: Digi-Key; Supplier Part Number 1: 296-3820-2-ND; Supplier 2: Digi-Key; Supplier Part Number 2: 296-3820-1-ND; Supplier 3: Digi-Key; Supplier Part Number 3: 296-3820-6-ND; Supplier 4: Mouser; Supplier Part Number 4: 595-SN74LV374APWR; Input Type: CMOS; Operating Temperature Range(C): -40 to 125,-40 to 85; Code_JEDEC: MO-153; ComponentLink1Description: Manufacturer URL; ComponentLink1URL: http://www.ti.com/; ComponentLink2Description: Datasheet; ComponentLink2URL: http://www.ti.com/lit/ds/symlink/sn74lv374a.pdf; ComponentLink3Description: Package Specification; ComponentLink3URL: http://www.ti.com/lit/ml/mpds362/mpds362.pdf
footprint PW0020A_N (SOP, 20-Leads, Body 6.6x4.5mm, Pitch 0.65mm, IPC Medium Density)
footprint PW0020A_M (SOP, 20-Leads, Body 6.6x4.5mm, Pitch 0.65mm, IPC Low Density)
footprint PW0020A_L (SOP, 20-Leads, Body 6.6x4.5mm, Pitch 0.65mm, IPC High Density)
part A pins: 1 OE (in), 2 1Q (hiz), 3 1D (in), 4 2D (in), 5 2Q (hiz), 6 3Q (hiz), 7 3D (in), 8 4D (in), 9 4Q (hiz), 11 CLK (in), 12 5Q (hiz), 13 5D (in), 14 6D (in), 15 6Q (hiz), 16 7Q (hiz), 17 7D (in), 18 8D (in), 19 8Q (hiz)
part B pins: 10 GND (power), 20 VCC (power)

## SN74LV374APWT
designator U?
Octal Edge-Triggered D-Type Flip-Flops With 3-State Outputs, PW0020A, SMALL T&R; Generic Part Number: SN74LV374A; Manufacturer: Texas Instruments; PartNumber: SN74LV374APWT; VCC(Min)(V): 2; VCC(Max)(V): 5.5; Output Type: CMOS; ICC @ Nom Voltage(Max)(mA): 0.02; Bits(#): 8; F @ Nom Voltage(Max)(Mhz): 70; Rating: Catalog; Technology Family: LV-A; Voltage(Nom)(V): 2.5,3.3,5; Schmitt Trigger: No; Output Drive (IOL/IOH)(Max)(mA): 50/-50; Output Logic: Non-inverted; 3-State Output: Yes; tpd @ Nom Voltage(Max)(ns): 19,15,9.5; DatasheetVersion: SCLS408I; PackageReference: PW0020A; Supplier 1: Digi-Key; Supplier Part Number 1: SN74LV374APWT-ND; Supplier 2: Mouser; Supplier Part Number 2: 595-SN74LV374APWT; Input Type: CMOS; Operating Temperature Range(C): -40 to 125,-40 to 85; Code_JEDEC: MO-153; ComponentLink1Description: Manufacturer URL; ComponentLink1URL: http://www.ti.com/; ComponentLink2Description: Datasheet; ComponentLink2URL: http://www.ti.com/lit/ds/symlink/sn74lv374a.pdf; ComponentLink3Description: Package Specification; ComponentLink3URL: http://www.ti.com/lit/ml/mpds362/mpds362.pdf
footprint PW0020A_N (SOP, 20-Leads, Body 6.6x4.5mm, Pitch 0.65mm, IPC Medium Density)
footprint PW0020A_M (SOP, 20-Leads, Body 6.6x4.5mm, Pitch 0.65mm, IPC Low Density)
footprint PW0020A_L (SOP, 20-Leads, Body 6.6x4.5mm, Pitch 0.65mm, IPC High Density)
part A pins: 1 OE (in), 2 1Q (hiz), 3 1D (in), 4 2D (in), 5 2Q (hiz), 6 3Q (hiz), 7 3D (in), 8 4D (in), 9 4Q (hiz), 11 CLK (in), 12 5Q (hiz), 13 5D (in), 14 6D (in), 15 6Q (hiz), 16 7Q (hiz), 17 7D (in), 18 8D (in), 19 8Q (hiz)
part B pins: 10 GND (power), 20 VCC (power)

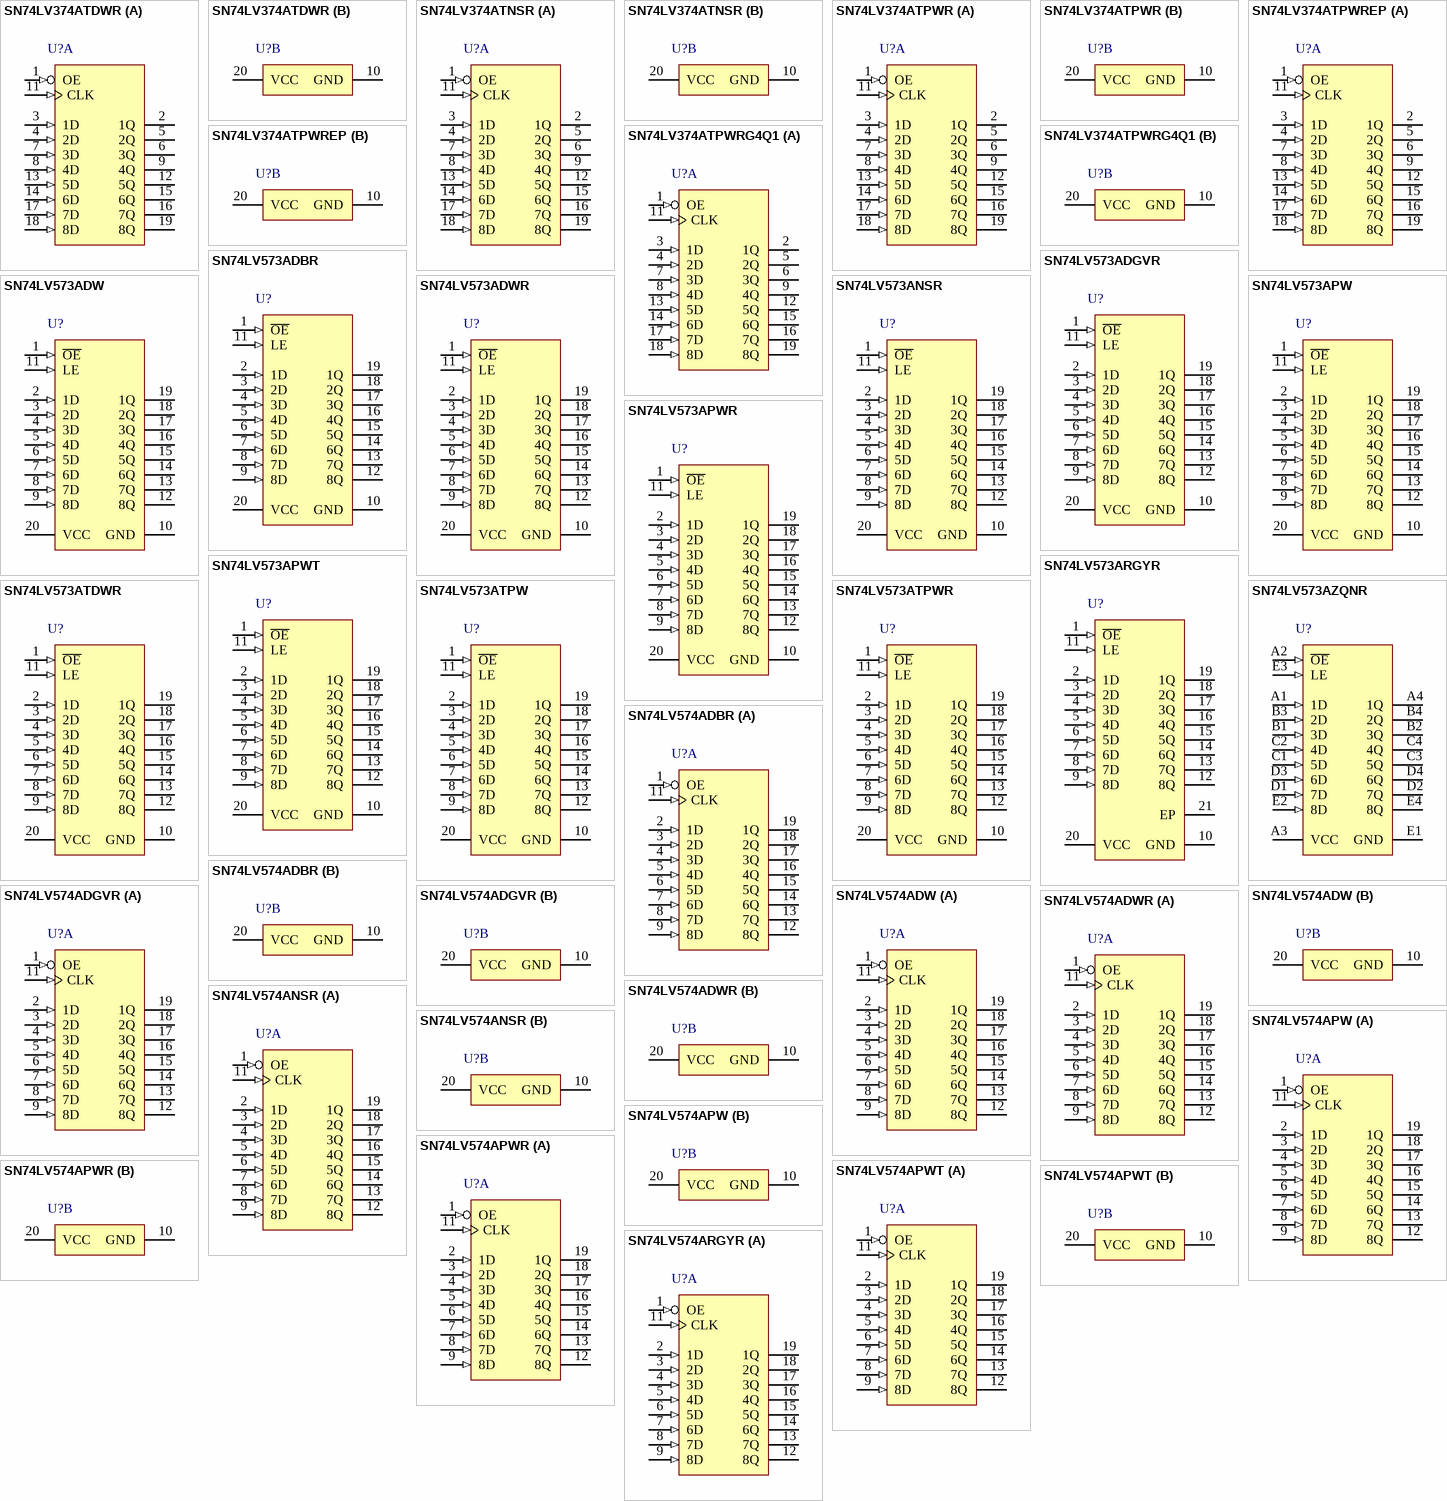
[diagram p101: symbols SN74LV374ATDWR to SN74LV574ARGYR]

## SN74LV374ATDWR
designator U?
SN74LV374AT, DW0020A, LARGE T&R; Manufacturer: Texas Instruments; PartNumber: SN74LV374ATDWR; VCC(Min)(V): 4.5; VCC(Max)(V): 5.5; Output Type: CMOS; ICC @ Nom Voltage(Max)(mA): 0.02; Input Type: LVTTL; Bits(#): 8; F @ Nom Voltage(Max)(Mhz): 70; Rating: Catalog; Technology Family: LV-AT; Voltage(Nom)(V): 3.3; Schmitt Trigger: No; Output Drive (IOL/IOH)(Max)(mA): 16/-16; Output Logic: Non-inverted; 3-State Output: Yes; tpd @ Nom Voltage(Max)(ns): 11.5; DatasheetVersion: SCES632; PackageReference: DW0020A; Supplier 1: Digi-Key; Supplier Part Number 1: 296-21044-2-ND; Supplier 2: Digi-Key; Supplier Part Number 2: 296-21044-1-ND; Supplier 3: Digi-Key; Supplier Part Number 3: 296-21044-6-ND; Supplier 4: Mouser; Supplier Part Number 4: 595-SN74LV374ATDWR; Generic Part Number: SN74LV374AT; Operating Temperature Range(C): -40 to 85; Code_JEDEC: MS-013; ComponentLink1Description: Manufacturer URL; ComponentLink1URL: http://www.ti.com/; ComponentLink2Description: Datasheet; ComponentLink2URL: http://www.ti.com/lit/ds/symlink/sn74lv374at.pdf; ComponentLink3Description: Package Specification; ComponentLink3URL: http://www.ti.com/lit/ml/mpds173a/mpds173a.pdf
footprint DW0020A_N (SOIC, 20-Leads, Body 13x7.6mm, Pitch 1.27mm, IPC Medium Density)
footprint DW0020A_M (SOIC, 20-Leads, Body 13x7.6mm, Pitch 1.27mm, IPC Low Density)
footprint DW0020A_L (SOIC, 20-Leads, Body 13x7.6mm, Pitch 1.27mm, IPC High Density)
part A pins: 1 OE (in), 2 1Q (hiz), 3 1D (in), 4 2D (in), 5 2Q (hiz), 6 3Q (hiz), 7 3D (in), 8 4D (in), 9 4Q (hiz), 11 CLK (in), 12 5Q (hiz), 13 5D (in), 14 6D (in), 15 6Q (hiz), 16 7Q (hiz), 17 7D (in), 18 8D (in), 19 8Q (hiz)
part B pins: 10 GND (power), 20 VCC (power)

## SN74LV374ATNSR
designator U?
SN74LV374AT, NS0020A, LARGE T&R; Manufacturer: Texas Instruments; PartNumber: SN74LV374ATNSR; VCC(Min)(V): 4.5; VCC(Max)(V): 5.5; Output Type: CMOS; ICC @ Nom Voltage(Max)(mA): 0.02; Input Type: LVTTL; Bits(#): 8; F @ Nom Voltage(Max)(Mhz): 70; Rating: Catalog; Technology Family: LV-AT; Voltage(Nom)(V): 3.3; Schmitt Trigger: No; Output Drive (IOL/IOH)(Max)(mA): 16/-16; Output Logic: Non-inverted; 3-State Output: Yes; tpd @ Nom Voltage(Max)(ns): 11.5; DatasheetVersion: SCES632; PackageReference: NS0020A; Supplier 1: Digi-Key; Supplier Part Number 1: 296-21045-2-ND; Supplier 2: Digi-Key; Supplier Part Number 2: 296-21045-1-ND; Supplier 3: Digi-Key; Supplier Part Number 3: 296-21045-6-ND; Supplier 4: Mouser; Supplier Part Number 4: 595-SN74LV374ATNSR; Generic Part Number: SN74LV374AT; Operating Temperature Range(C): -40 to 85; ComponentLink1Description: Manufacturer URL; ComponentLink1URL: http://www.ti.com/; ComponentLink2Description: Datasheet; ComponentLink2URL: http://www.ti.com/lit/ds/symlink/sn74lv374at.pdf; ComponentLink3Description: Package Specification; ComponentLink3URL: http://www.ti.com/lit/ml/msop002a/msop002a.pdf
footprint NS0020A_N (SOIC,20-Leads,Body 12.9x5.6mm,Pitch 1.27mm,IPC Medium Density)
footprint NS0020A_M (SOIC,20-Leads,Body 12.9x5.6mm,Pitch 1.27mm,IPC Low Density)
footprint NS0020A_L (SOIC,20-Leads,Body 12.9x5.6mm,Pitch 1.27mm,IPC High Density)
part A pins: 1 OE (in), 2 1Q (hiz), 3 1D (in), 4 2D (in), 5 2Q (hiz), 6 3Q (hiz), 7 3D (in), 8 4D (in), 9 4Q (hiz), 11 CLK (in), 12 5Q (hiz), 13 5D (in), 14 6D (in), 15 6Q (hiz), 16 7Q (hiz), 17 7D (in), 18 8D (in), 19 8Q (hiz)
part B pins: 10 GND (power), 20 VCC (power)

## SN74LV374ATPWR
designator U?
SN74LV374AT, PW0020A, LARGE T&R; Manufacturer: Texas Instruments; PartNumber: SN74LV374ATPWR; VCC(Min)(V): 4.5; VCC(Max)(V): 5.5; Output Type: CMOS; ICC @ Nom Voltage(Max)(mA): 0.02; Input Type: LVTTL; Bits(#): 8; F @ Nom Voltage(Max)(Mhz): 70; Rating: Catalog; Technology Family: LV-AT; Voltage(Nom)(V): 3.3; Schmitt Trigger: No; Output Drive (IOL/IOH)(Max)(mA): 16/-16; Output Logic: Non-inverted; 3-State Output: Yes; tpd @ Nom Voltage(Max)(ns): 11.5; DatasheetVersion: SCES632; PackageReference: PW0020A; Supplier 1: Digi-Key; Supplier Part Number 1: 296-21046-2-ND; Supplier 2: Digi-Key; Supplier Part Number 2: 296-21046-1-ND; Supplier 3: Digi-Key; Supplier Part Number 3: 296-21046-6-ND; Supplier 4: Mouser; Supplier Part Number 4: 595-SN74LV374ATPWR; Generic Part Number: SN74LV374AT; Operating Temperature Range(C): -40 to 85; Code_JEDEC: MO-153; ComponentLink1Description: Manufacturer URL; ComponentLink1URL: http://www.ti.com/; ComponentLink2Description: Datasheet; ComponentLink2URL: http://www.ti.com/lit/ds/symlink/sn74lv374at.pdf; ComponentLink3Description: Package Specification; ComponentLink3URL: http://www.ti.com/lit/ml/mpds362/mpds362.pdf
footprint PW0020A_N (SOP, 20-Leads, Body 6.6x4.5mm, Pitch 0.65mm, IPC Medium Density)
footprint PW0020A_M (SOP, 20-Leads, Body 6.6x4.5mm, Pitch 0.65mm, IPC Low Density)
footprint PW0020A_L (SOP, 20-Leads, Body 6.6x4.5mm, Pitch 0.65mm, IPC High Density)
part A pins: 1 OE (in), 2 1Q (hiz), 3 1D (in), 4 2D (in), 5 2Q (hiz), 6 3Q (hiz), 7 3D (in), 8 4D (in), 9 4Q (hiz), 11 CLK (in), 12 5Q (hiz), 13 5D (in), 14 6D (in), 15 6Q (hiz), 16 7Q (hiz), 17 7D (in), 18 8D (in), 19 8Q (hiz)
part B pins: 10 GND (power), 20 VCC (power)

## SN74LV374ATPWREP
designator U?
Enhanced Product Octal Edge-Triggered D-Type Flip-Flops With 3-State Outputs, PW0020A, LARGE T&R; Generic Part Number: SN74LV374A-EP; Manufacturer: Texas Instruments; PartNumber: SN74LV374ATPWREP; VCC(Min)(V): 2; VCC(Max)(V): 5.5; Output Type: CMOS; ICC @ Nom Voltage(Max)(mA): 0.02; Bits(#): 8; F @ Nom Voltage(Max)(Mhz): 70; Rating: HiRel Enhanced Product; Technology Family: LV-A; Voltage(Nom)(V): 3.3,5; Schmitt Trigger: No; Output Drive (IOL/IOH)(Max)(mA): 50/-50; Output Logic: Non-inverted; 3-State Output: Yes; tpd @ Nom Voltage(Max)(ns): 18.5,13.5; DatasheetVersion: SCLS500A; PackageReference: PW0020A; Supplier 1: Digi-Key; Supplier Part Number 1: 296-22312-2-ND; Supplier 2: Digi-Key; Supplier Part Number 2: 296-22312-1-ND; Supplier 3: Digi-Key; Supplier Part Number 3: 296-22312-6-ND; Supplier 4: Mouser; Supplier Part Number 4: 595-SN74LV374ATPWREP; Input Type: CMOS; Operating Temperature Range(C): -40 to 105; Code_JEDEC: MO-153; ComponentLink1Description: Manufacturer URL; ComponentLink1URL: http://www.ti.com/; ComponentLink2Description: Datasheet; ComponentLink2URL: http://www.ti.com/lit/ds/symlink/sn74lv374a-ep.pdf; ComponentLink3Description: Package Specification; ComponentLink3URL: http://www.ti.com/lit/ml/mpds362/mpds362.pdf
footprint PW0020A_N (SOP, 20-Leads, Body 6.6x4.5mm, Pitch 0.65mm, IPC Medium Density)
footprint PW0020A_M (SOP, 20-Leads, Body 6.6x4.5mm, Pitch 0.65mm, IPC Low Density)
footprint PW0020A_L (SOP, 20-Leads, Body 6.6x4.5mm, Pitch 0.65mm, IPC High Density)
part A pins: 1 OE (in), 2 1Q (hiz), 3 1D (in), 4 2D (in), 5 2Q (hiz), 6 3Q (hiz), 7 3D (in), 8 4D (in), 9 4Q (hiz), 11 CLK (in), 12 5Q (hiz), 13 5D (in), 14 6D (in), 15 6Q (hiz), 16 7Q (hiz), 17 7D (in), 18 8D (in), 19 8Q (hiz)
part B pins: 10 GND (power), 20 VCC (power)

## SN74LV374ATPWRG4Q1
designator U?
Automotive Catalog Octal Edge-Triggered D-Type Flip-Flops With 3-State Outputs, PW0020A, LARGE T&R; Generic Part Number: SN74LV374A-Q1; Manufacturer: Texas Instruments; PartNumber: SN74LV374ATPWRG4Q1; VCC(Min)(V): 2; VCC(Max)(V): 5.5; Output Type: CMOS; ICC @ Nom Voltage(Max)(mA): 0.02; Bits(#): 8; F @ Nom Voltage(Max)(Mhz): 70; Technology Family: LV-A; Voltage(Nom)(V): 3.3,5; Schmitt Trigger: No; Output Drive (IOL/IOH)(Max)(mA): 50/-50; Output Logic: Non-inverted; 3-State Output: Yes; tpd @ Nom Voltage(Max)(ns): 18.5,13.5; DatasheetVersion: SCLS468C; PackageReference: PW0020A; Supplier 1: Digi-Key; Supplier Part Number 1: 296-24751-2-ND; Supplier 2: Digi-Key; Supplier Part Number 2: 296-24751-1-ND; Supplier 3: Digi-Key; Supplier Part Number 3: 296-24751-6-ND; Supplier 4: Mouser; Supplier Part Number 4: 595-74LV374ATPWRG4Q1; Input Type: CMOS; Operating Temperature Range(C): -40 to 105; Rating: Automotive; Code_JEDEC: MO-153; ComponentLink1Description: Manufacturer URL; ComponentLink1URL: http://www.ti.com/; ComponentLink2Description: Datasheet; ComponentLink2URL: http://www.ti.com/lit/ds/symlink/sn74lv374a-q1.pdf; ComponentLink3Description: Package Specification; ComponentLink3URL: http://www.ti.com/lit/ml/mpds362/mpds362.pdf
footprint PW0020A_N (SOP, 20-Leads, Body 6.6x4.5mm, Pitch 0.65mm, IPC Medium Density)
footprint PW0020A_M (SOP, 20-Leads, Body 6.6x4.5mm, Pitch 0.65mm, IPC Low Density)
footprint PW0020A_L (SOP, 20-Leads, Body 6.6x4.5mm, Pitch 0.65mm, IPC High Density)
part A pins: 1 OE (in), 2 1Q (hiz), 3 1D (in), 4 2D (in), 5 2Q (hiz), 6 3Q (hiz), 7 3D (in), 8 4D (in), 9 4Q (hiz), 11 CLK (in), 12 5Q (hiz), 13 5D (in), 14 6D (in), 15 6Q (hiz), 16 7Q (hiz), 17 7D (in), 18 8D (in), 19 8Q (hiz)
part B pins: 10 GND (power), 20 VCC (power)

## SN74LV573ADBR
designator U?
Octal Transparent D-Type Latches With 3-State Outputs, DB0020A, LARGE T&R; Generic Part Number: SN74LV573A; Manufacturer: Texas Instruments; PartNumber: SN74LV573ADBR; VCC(Min)(V): 2; VCC(Max)(V): 5.5; Output Type: CMOS; Logic: True; Static Current: 0.02; Bits(#): 8; F @ Nom Voltage(Max)(Mhz): 70; Rating: Catalog; Technology Family: LV-A; Voltage(Nom)(V): 2.5,3.3,5; Schmitt Trigger: No; Output Drive (IOL/IOH)(Max)(mA): 50/-50; Output Logic: Non-inverted; 3-State Output: Yes; tpd @ Nom Voltage(Max)(ns): 21,16.5,10; DatasheetVersion: SCLS411I; PackageReference: DB0020A; Supplier 1: Digi-Key; Supplier Part Number 1: 296-3839-2-ND; Supplier 2: Digi-Key; Supplier Part Number 2: 296-3839-1-ND; Supplier 3: Digi-Key; Supplier Part Number 3: 296-3839-6-ND; Supplier 4: Mouser; Supplier Part Number 4: 595-SN74LV573ADBR; ICC @ Nom Voltage(Max)(mA): 0.02; Input Type: CMOS; Operating Temperature Range(C): -40 to 85; Code_JEDEC: MO-150; ComponentLink1Description: Manufacturer URL; ComponentLink1URL: http://www.ti.com/; ComponentLink2Description: Datasheet; ComponentLink2URL: http://www.ti.com/lit/ds/symlink/sn74lv573a.pdf; ComponentLink3Description: Package Specification; ComponentLink3URL: http://www.ti.com/lit/ml/mpds508/mpds508.pdf
footprint DB0020A_N (SOP, 20-Leads, Body 5.6x7.5mm, Pitch 0.65mm, IPC Medium Density)
footprint DB0020A_M (SOP, 20-Leads, Body 5.6x7.5mm, Pitch 0.65mm, IPC Low Density)
footprint DB0020A_L (SOP, 20-Leads, Body 5.6x7.5mm, Pitch 0.65mm, IPC High Density)
pins: 1 ~{OE} (in), 2 1D (in), 3 2D (in), 4 3D (in), 5 4D (in), 6 5D (in), 7 6D (in), 8 7D (in), 9 8D (in), 10 GND (power), 11 LE (in), 12 8Q (hiz), 13 7Q (hiz), 14 6Q (hiz), 15 5Q (hiz), 16 4Q (hiz), 17 3Q (hiz), 18 2Q (hiz), 19 1Q (hiz), 20 VCC (power)

## SN74LV573ADGVR
designator U?
Octal Transparent D-Type Latches With 3-State Outputs, DGV0020A, LARGE T&R; Generic Part Number: SN74LV573A; Manufacturer: Texas Instruments; PartNumber: SN74LV573ADGVR; VCC(Min)(V): 2; VCC(Max)(V): 5.5; Output Type: CMOS; Logic: True; Static Current: 0.02; Bits(#): 8; F @ Nom Voltage(Max)(Mhz): 70; Rating: Catalog; Technology Family: LV-A; Voltage(Nom)(V): 2.5,3.3,5; Schmitt Trigger: No; Output Drive (IOL/IOH)(Max)(mA): 50/-50; Output Logic: Non-inverted; 3-State Output: Yes; tpd @ Nom Voltage(Max)(ns): 21,16.5,10; DatasheetVersion: SCLS411I; PackageReference: DGV0020A; Supplier 1: Digi-Key; Supplier Part Number 1: 296-38249-2-ND; Supplier 2: Digi-Key; Supplier Part Number 2: 296-38249-1-ND; Supplier 3: Digi-Key; Supplier Part Number 3: 296-38249-6-ND; Supplier 4: Mouser; Supplier Part Number 4: 595-SN74LV573ADGVR; ICC @ Nom Voltage(Max)(mA): 0.02; Input Type: CMOS; Operating Temperature Range(C): -40 to 85; Code_JEDEC: MO-194; ComponentLink1Description: Manufacturer URL; ComponentLink1URL: http://www.ti.com/; ComponentLink2Description: Datasheet; ComponentLink2URL: http://www.ti.com/lit/ds/symlink/sn74lv573a.pdf; ComponentLink3Description: Package Specification; ComponentLink3URL: http://www.ti.com/lit/ml/mpds006c/mpds006c.pdf
footprint DGV0020A_N (SOP, 20-Leads, Body 4.5x5.1mm, Pitch 0.4mm, IPC Medium Density)
footprint DGV0020A_M (SOP, 20-Leads, Body 4.5x5.1mm, Pitch 0.4mm, IPC Low Density)
footprint DGV0020A_L (SOP, 20-Leads, Body 4.5x5.1mm, Pitch 0.4mm, IPC High Density)
pins: 1 ~{OE} (in), 2 1D (in), 3 2D (in), 4 3D (in), 5 4D (in), 6 5D (in), 7 6D (in), 8 7D (in), 9 8D (in), 10 GND (power), 11 LE (in), 12 8Q (hiz), 13 7Q (hiz), 14 6Q (hiz), 15 5Q (hiz), 16 4Q (hiz), 17 3Q (hiz), 18 2Q (hiz), 19 1Q (hiz), 20 VCC (power)

## SN74LV573ADW
designator U?
Octal Transparent D-Type Latches With 3-State Outputs, DW0020A, TUBE; Generic Part Number: SN74LV573A; Manufacturer: Texas Instruments; PartNumber: SN74LV573ADW; VCC(Min)(V): 2; VCC(Max)(V): 5.5; Output Type: CMOS; Logic: True; Static Current: 0.02; Bits(#): 8; F @ Nom Voltage(Max)(Mhz): 70; Rating: Catalog; Technology Family: LV-A; Voltage(Nom)(V): 2.5,3.3,5; Schmitt Trigger: No; Output Drive (IOL/IOH)(Max)(mA): 50/-50; Output Logic: Non-inverted; 3-State Output: Yes; tpd @ Nom Voltage(Max)(ns): 21,16.5,10; DatasheetVersion: SCLS411I; PackageReference: DW0020A; Supplier 1: Digi-Key; Supplier Part Number 1: 296-1690-5-ND; Supplier 2: Farnell; Supplier Part Number 2: 1740082; Supplier 3: Newark; Supplier Part Number 3: 76C4903; Supplier 4: Mouser; Supplier Part Number 4: 595-SN74LV573ADW; ICC @ Nom Voltage(Max)(mA): 0.02; Input Type: CMOS; Operating Temperature Range(C): -40 to 85; Code_JEDEC: MS-013; ComponentLink1Description: Manufacturer URL; ComponentLink1URL: http://www.ti.com/; ComponentLink2Description: Datasheet; ComponentLink2URL: http://www.ti.com/lit/ds/symlink/sn74lv573a.pdf; ComponentLink3Description: Package Specification; ComponentLink3URL: http://www.ti.com/lit/ml/mpds173a/mpds173a.pdf
footprint DW0020A_N (SOIC, 20-Leads, Body 13x7.6mm, Pitch 1.27mm, IPC Medium Density)
footprint DW0020A_M (SOIC, 20-Leads, Body 13x7.6mm, Pitch 1.27mm, IPC Low Density)
footprint DW0020A_L (SOIC, 20-Leads, Body 13x7.6mm, Pitch 1.27mm, IPC High Density)
pins: 1 ~{OE} (in), 2 1D (in), 3 2D (in), 4 3D (in), 5 4D (in), 6 5D (in), 7 6D (in), 8 7D (in), 9 8D (in), 10 GND (power), 11 LE (in), 12 8Q (hiz), 13 7Q (hiz), 14 6Q (hiz), 15 5Q (hiz), 16 4Q (hiz), 17 3Q (hiz), 18 2Q (hiz), 19 1Q (hiz), 20 VCC (power)

## SN74LV573ADWR
designator U?
Octal Transparent D-Type Latches With 3-State Outputs, DW0020A, LARGE T&R; Generic Part Number: SN74LV573A; Manufacturer: Texas Instruments; PartNumber: SN74LV573ADWR; VCC(Min)(V): 2; VCC(Max)(V): 5.5; Output Type: CMOS; Logic: True; Static Current: 0.02; Bits(#): 8; F @ Nom Voltage(Max)(Mhz): 70; Rating: Catalog; Technology Family: LV-A; Voltage(Nom)(V): 2.5,3.3,5; Schmitt Trigger: No; Output Drive (IOL/IOH)(Max)(mA): 50/-50; Output Logic: Non-inverted; 3-State Output: Yes; tpd @ Nom Voltage(Max)(ns): 21,16.5,10; DatasheetVersion: SCLS411I; PackageReference: DW0020A; Supplier 1: Digi-Key; Supplier Part Number 1: 296-1690-2-ND; Supplier 2: Digi-Key; Supplier Part Number 2: 296-1690-1-ND; Supplier 3: Digi-Key; Supplier Part Number 3: 296-1690-6-ND; Supplier 4: Mouser; Supplier Part Number 4: 595-SN74LV573ADWR; ICC @ Nom Voltage(Max)(mA): 0.02; Input Type: CMOS; Operating Temperature Range(C): -40 to 85; Code_JEDEC: MS-013; ComponentLink1Description: Manufacturer URL; ComponentLink1URL: http://www.ti.com/; ComponentLink2Description: Datasheet; ComponentLink2URL: http://www.ti.com/lit/ds/symlink/sn74lv573a.pdf; ComponentLink3Description: Package Specification; ComponentLink3URL: http://www.ti.com/lit/ml/mpds173a/mpds173a.pdf
footprint DW0020A_N (SOIC, 20-Leads, Body 13x7.6mm, Pitch 1.27mm, IPC Medium Density)
footprint DW0020A_M (SOIC, 20-Leads, Body 13x7.6mm, Pitch 1.27mm, IPC Low Density)
footprint DW0020A_L (SOIC, 20-Leads, Body 13x7.6mm, Pitch 1.27mm, IPC High Density)
pins: 1 ~{OE} (in), 2 1D (in), 3 2D (in), 4 3D (in), 5 4D (in), 6 5D (in), 7 6D (in), 8 7D (in), 9 8D (in), 10 GND (power), 11 LE (in), 12 8Q (hiz), 13 7Q (hiz), 14 6Q (hiz), 15 5Q (hiz), 16 4Q (hiz), 17 3Q (hiz), 18 2Q (hiz), 19 1Q (hiz), 20 VCC (power)